# Altium schematic symbol library WE-WAFB.SchLib: 10 symbols
Pins are listed as number, name and electrical type; pins without a type are passive.

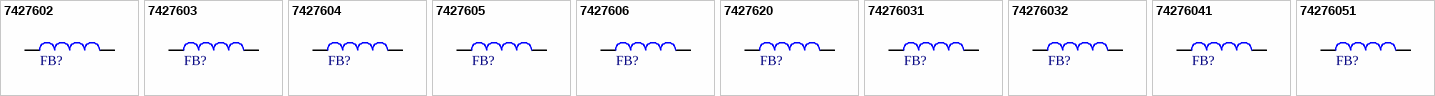
[diagram p0: symbols 7427602 to 74276051]

## 7427602
designator FB?, comment 130Ohm  (value not drawn)
WE-WAFB Sleeve Choke, 130Ohm, 3A; Manufacturer Part Number: 7427602; Manufacturer: Wurth Elektronik; DC Resistance Max: 5mOhm; Impedance @10MHz: 45Ohm; Impedance Max: 835Ohm; Impedance Max Test Condition: 1400MHz; Category: Ferrites for PCB Assembly; Match Code: WE-WAFB; ComponentLink1Description: Website Link; ComponentLink1URL: https://www.we-online.com/redexpert/article/7427602?ad; ComponentLink2Description: Datasheet Link; ComponentLink2URL: https://www.we-online.com/redexpert/spec/7427602?ad; Mount: Through Hole; Operating Temperature Max: 125°C; Operating Temperature Min: -25°C; Packaging: Ammo Pack; Length: 8.3mm; Width: 3.5mm; Height: 3.5mm; Impedance @100MHz: 130Ohm; Rated Current: 3A
footprint 7427602
simulation model 8335_7427602_130ohm
pins: 1, 2

## 7427603
designator FB?, comment 70Ohm  (value not drawn)
WE-WAFB Sleeve Choke, 70Ohm, 3A; Manufacturer Part Number: 7427603; Manufacturer: Wurth Elektronik; DC Resistance Max: 5mOhm; Impedance @10MHz: 28Ohm; Impedance Max: 1230Ohm; Impedance Max Test Condition: 1400MHz; Category: Ferrites for PCB Assembly; Match Code: WE-WAFB; ComponentLink1Description: Website Link; ComponentLink1URL: https://www.we-online.com/redexpert/article/7427603?ad; ComponentLink2Description: Datasheet Link; ComponentLink2URL: https://www.we-online.com/redexpert/spec/7427603?ad; Mount: Through Hole; Operating Temperature Max: 125°C; Operating Temperature Min: -25°C; Packaging: Ammo Pack; Length: 4.5mm; Width: 3.5mm; Height: 3.5mm; Impedance @100MHz: 70Ohm; Rated Current: 3A
footprint 7427603
simulation model 4535_7427603_70ohm
pins: 1, 2

## 7427604
designator FB?, comment 82Ohm  (value not drawn)
WE-WAFB Sleeve Choke, 82Ohm, 3A; Manufacturer Part Number: 7427604; Manufacturer: Wurth Elektronik; DC Resistance Max: 5mOhm; Impedance @10MHz: 32Ohm; Impedance Max: 920Ohm; Impedance Max Test Condition: 1400MHz; Category: Ferrites for PCB Assembly; Match Code: WE-WAFB; ComponentLink1Description: Website Link; ComponentLink1URL: https://www.we-online.com/redexpert/article/7427604?ad; ComponentLink2Description: Datasheet Link; ComponentLink2URL: https://www.we-online.com/redexpert/spec/7427604?ad; Mount: Through Hole; Operating Temperature Max: 125°C; Operating Temperature Min: -25°C; Packaging: Ammo Pack; Length: 6mm; Width: 3.5mm; Height: 3.5mm; Impedance @100MHz: 82Ohm; Rated Current: 3A
footprint 7427604
simulation model 6035_7427604_82ohm
pins: 1, 2

## 7427605
designator FB?, comment 100Ohm  (value not drawn)
WE-WAFB Sleeve Choke, 100Ohm, 3A; Manufacturer Part Number: 7427605; Manufacturer: Wurth Elektronik; DC Resistance Max: 5mOhm; Impedance @10MHz: 50Ohm; Impedance Max: 715Ohm; Impedance Max Test Condition: 1400MHz; Category: Ferrites for PCB Assembly; Match Code: WE-WAFB; ComponentLink1Description: Website Link; ComponentLink1URL: https://www.we-online.com/redexpert/article/7427605?ad; ComponentLink2Description: Datasheet Link; ComponentLink2URL: https://www.we-online.com/redexpert/spec/7427605?ad; Mount: Through Hole; Operating Temperature Max: 125°C; Operating Temperature Min: -25°C; Packaging: Ammo Pack; Length: 7.5mm; Width: 3.5mm; Height: 3.5mm; Impedance @100MHz: 100Ohm; Rated Current: 3A
footprint 7427605
simulation model 7535_7427605_100ohm
pins: 1, 2

## 7427606
designator FB?, comment 130Ohm  (value not drawn)
WE-WAFB Sleeve Choke, 130Ohm, 3A; Manufacturer Part Number: 7427606; Manufacturer: Wurth Elektronik; DC Resistance Max: 5mOhm; Impedance @10MHz: 65Ohm; Impedance Max: 812Ohm; Impedance Max Test Condition: 1350MHz; Category: Ferrites for PCB Assembly; Match Code: WE-WAFB; ComponentLink1Description: Website Link; ComponentLink1URL: https://www.we-online.com/redexpert/article/7427606?ad; ComponentLink2Description: Datasheet Link; ComponentLink2URL: https://www.we-online.com/redexpert/spec/7427606?ad; Mount: Through Hole; Operating Temperature Max: 125°C; Operating Temperature Min: -25°C; Packaging: Ammo Pack; Length: 9mm; Width: 3.5mm; Height: 3.5mm; Impedance @100MHz: 130Ohm; Rated Current: 3A
footprint 7427606
simulation model 9035_7427606_130ohm
pins: 1, 2

## 7427620
designator FB?, comment 130Ohm  (value not drawn)
WE-WAFB Sleeve Choke, 130Ohm, 7A; Manufacturer Part Number: 7427620; Manufacturer: Wurth Elektronik; DC Resistance Max: 20mOhm; Impedance @10MHz: 60Ohm; Impedance Max: 610Ohm; Impedance Max Test Condition: 1300MHz; Category: Ferrites for PCB Assembly; Match Code: WE-WAFB; ComponentLink1Description: Website Link; ComponentLink1URL: https://www.we-online.com/redexpert/article/7427620?ad; ComponentLink2Description: Datasheet Link; ComponentLink2URL: https://www.we-online.com/redexpert/spec/7427620?ad; Mount: Through Hole; Operating Temperature Max: 125°C; Operating Temperature Min: -40°C; Packaging: Tape and Reel; Length: 9mm; Width: 3.5mm; Height: 7.5mm; Impedance @100MHz: 130Ohm; Rated Current: 7A
footprint 7427620
simulation model 4535_7427620_130ohm
pins: 1, 2

## 74276031
designator FB?, comment 80Ohm  (value not drawn)
WE-WAFB Sleeve Choke, 80Ohm, 3A; Manufacturer Part Number: 74276031; Manufacturer: Wurth Elektronik; DC Resistance Max: 5mOhm; Impedance @10MHz: 20Ohm; Impedance Max: 1150Ohm; Impedance Max Test Condition: 1400MHz; Category: Ferrites for PCB Assembly; Match Code: WE-WAFB; ComponentLink1Description: Website Link; ComponentLink1URL: https://www.we-online.com/redexpert/article/74276031?ad; ComponentLink2Description: Datasheet Link; ComponentLink2URL: https://www.we-online.com/redexpert/spec/74276031?ad; Mount: Through Hole; Operating Temperature Max: 125°C; Operating Temperature Min: -25°C; Packaging: Ammo Pack; Length: 4.5mm; Width: 3.5mm; Height: 3.5mm; Impedance @100MHz: 80Ohm; Rated Current: 3A
footprint 74276031
simulation model 4535_74276031_80ohm
pins: 1, 2

## 74276032
designator FB?, comment 83Ohm  (value not drawn)
WE-WAFB Sleeve Choke, 83Ohm, 6A; Manufacturer Part Number: 74276032; Manufacturer: Wurth Elektronik; DC Resistance Max: 5mOhm; Impedance @10MHz: 49Ohm; Impedance Max: 1350Ohm; Impedance Max Test Condition: 1000MHz; Category: Ferrites for PCB Assembly; Match Code: WE-WAFB; ComponentLink1Description: Website Link; ComponentLink1URL: https://www.we-online.com/redexpert/article/74276032?ad; ComponentLink2Description: Datasheet Link; ComponentLink2URL: https://www.we-online.com/redexpert/spec/74276032?ad; Mount: Through Hole; Operating Temperature Max: 125°C; Operating Temperature Min: -40°C; Packaging: Ammo Pack; Length: 5mm; Width: 3.5mm; Height: 3.5mm; Impedance @100MHz: 83Ohm; Rated Current: 6A
footprint 74276032
simulation model 5035_74276032_83ohm
pins: 1, 2

## 74276041
designator FB?, comment 89Ohm  (value not drawn)
WE-WAFB Sleeve Choke, 89Ohm, 3A; Manufacturer Part Number: 74276041; Manufacturer: Wurth Elektronik; DC Resistance Max: 5mOhm; Impedance @10MHz: 35Ohm; Impedance Max: 960Ohm; Impedance Max Test Condition: 1350MHz; Category: Ferrites for PCB Assembly; Match Code: WE-WAFB; ComponentLink1Description: Website Link; ComponentLink1URL: https://www.we-online.com/redexpert/article/74276041?ad; ComponentLink2Description: Datasheet Link; ComponentLink2URL: https://www.we-online.com/redexpert/spec/74276041?ad; Mount: Through Hole; Operating Temperature Max: 125°C; Operating Temperature Min: -25°C; Packaging: Ammo Pack; Length: 6mm; Width: 3.5mm; Height: 3.5mm; Impedance @100MHz: 89Ohm; Rated Current: 3A
footprint 74276041
simulation model 6035_74276041_89ohm
pins: 1, 2

## 74276051
designator FB?, comment 100Ohm  (value not drawn)
WE-WAFB Sleeve Choke, 100Ohm, 3A; Manufacturer Part Number: 74276051; Manufacturer: Wurth Elektronik; DC Resistance Max: 5mOhm; Impedance @10MHz: 43Ohm; Impedance Max: 850Ohm; Impedance Max Test Condition: 1350MHz; Category: Ferrites for PCB Assembly; Match Code: WE-WAFB; ComponentLink1Description: Website Link; ComponentLink1URL: https://www.we-online.com/redexpert/article/74276051?ad; ComponentLink2Description: Datasheet Link; ComponentLink2URL: https://www.we-online.com/redexpert/spec/74276051?ad; Mount: Through Hole; Operating Temperature Max: 125°C; Operating Temperature Min: -25°C; Packaging: Ammo Pack; Length: 7.8mm; Width: 3.5mm; Height: 3.5mm; Impedance @100MHz: 100Ohm; Rated Current: 3A
footprint 74276051
simulation model 7835_74276051_100ohm
pins: 1, 2